# Altium footprint library PCB - CONNECTOR - HIROSE - HIROSE DF13-5P-1.25H.PCBLIB: 1 footprints
Each footprint in its own frame and in the unit in brackets; x right, y up, seen from the top. Pads: shape width x height; smd on the part's side, far side on the other; paste and mask are expansions set on the pad; w line width, h text height; cw(c..) or ccw(c..) is an arc to the next point about the centre after c.
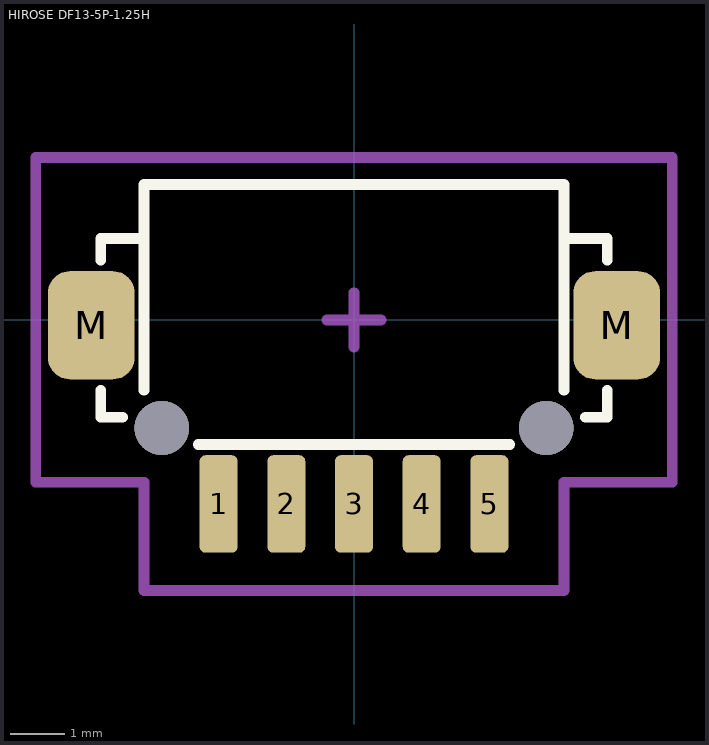
[diagram p0: the footprint, top view; thin cyan lines are the x and y axes]

## HIROSE DF13-5P-1.25H [mm] "DF13 Series 1.25mm pitch miniature crimping connector single row"
height 3.6
pads (7):
  rrect30% 0.7x1.8 smd: 1(-2.5,-3.4) 2(-1.25,-3.4) 3(0,-3.4) 4(1.25,-3.4) 5(2.5,-3.4)
  rrect50% 1.6x2 smd: M(-4.85,-0.1) M(4.85,-0.1)
via 3.55,-2 diameter 1 hole 1
via -3.55,-2 diameter 1 hole 1
Top Overlay:
  lines w0.2: -4.675,-1.3 -4.675,-1.8 -4.275,-1.8 ; -4.675,1.1 -4.675,1.5 -3.875,1.5 ; -3.875,-1.3 -3.875,2.5 -1.875,2.5 2.625,2.5 3.875,2.5 3.875,-1.3 ; -2.875,-2.3 -1.875,-2.3 -1.25,-2.3 1.875,-2.3 2.875,-2.3 ; 3.875,1.5 4.675,1.5 4.675,1.1 ; 4.275,-1.8 4.675,-1.8 4.675,-1.3
Mechanical 15:
  lines w0.2: -0.5,0 0.5,0 ; 0,-0.5 0,0.5 ; -5.875,-3 -3.875,-3 -3.875,-5 -1.875,-5 3.875,-5 3.875,-3 5.875,-3 5.875,2.5 5.875,3 4.625,3 -1.875,3 -5.875,3 -5.875,2.5 -5.875,-3
3D body "DF13-5P-1.25H_X_8A_S_H_X_97_S__.STEP": height 3.59, standoff -0.81, extent -5.45,-3.9 5.45,2.6